# EAGLE library part CC3200MOD (library scono)
https://www.digikey.com/product-detail/en/CC3200MODR1M2AMOBT/296-43564-1-ND/5864711?utm_campaign=buynow&WT.z_cid=ref_octopart_dkc_buynow&utm_medium=aggregator&curr=usd&site=us&utm_source=octopart
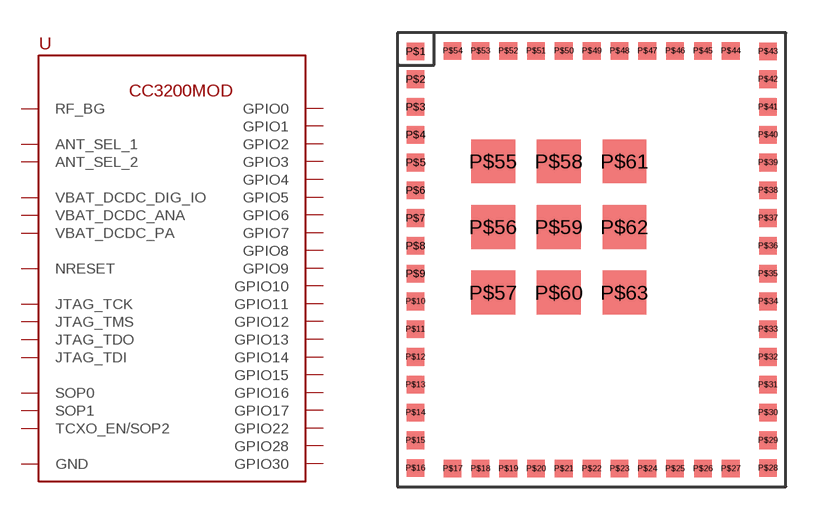
[diagram p43: symbol with the pads of 63-SMD; footprint 63-SMD]

Designator prefix U

## CC3200MOD  [63-SMD]
P$1  GND
P$2  GND
P$3  GPIO10
P$4  GPIO11
P$5  GPIO14
P$6  GPIO15
P$7  GPIO16
P$8  GPIO17
P$9  GPIO12
P$10  GPIO13
P$11  GPIO22
P$12  JTAG_TDI
P$16  GND
P$18  JTAG_TDO
P$19  GPIO28
P$21  JTAG_TCK
P$22  JTAG_TMS
P$23  TCXO_EN/SOP2
P$24  SOP1
P$25  ANT_SEL_1
P$26  ANT_SEL_2
P$27  GND
P$28  GND
P$30  GND
P$31  RF_BG
P$32  GND
P$34  SOP0
P$35  NRESET
P$36  VBAT_DCDC_ANA
P$37  VBAT_DCDC_PA
P$38  GND
P$40  VBAT_DCDC_DIG_IO
P$42  GPIO30
P$43  GND
P$44  GPIO0
P$46  GPIO1
P$47  GPIO2
P$48  GPIO3
P$49  GPIO4
P$50  GPIO5
P$51  GPIO6
P$52  GPIO7
P$53  GPIO8
P$54  GPIO9
P$55  GND
P$56  GND
P$57  GND
P$58  GND
P$59  GND
P$60  GND
P$61  GND
P$62  GND
P$63  GND

## Footprint 63-SMD (pad centres in mm)
smd 0.81 x 0.81: P$1 -8.05,9.525; P$2 -8.05,8.255; P$3 -8.05,6.985; P$4 -8.05,5.715; P$5 -8.05,4.445; P$6 -8.05,3.175; P$7 -8.05,1.905; P$8 -8.05,0.635; P$9 -8.05,-0.635; P$10 -8.05,-1.905; P$11 -8.05,-3.175; P$12 -8.05,-4.445; P$13 -8.05,-5.715; P$14 -8.05,-6.985; P$15 -8.05,-8.255; P$16 -8.05,-9.525; P$17 -6.35,-9.55; P$18 -5.08,-9.55; P$19 -3.81,-9.55; P$20 -2.54,-9.55; P$21 -1.27,-9.55; P$22 0,-9.55; P$23 1.27,-9.55; P$24 2.54,-9.55; P$25 3.81,-9.55; P$26 5.08,-9.55; P$27 6.35,-9.55; P$28 8.05,-9.525; P$29 8.05,-8.255; P$30 8.05,-6.985; P$31 8.05,-5.715; P$32 8.05,-4.445; P$33 8.05,-3.175; P$34 8.05,-1.905; P$35 8.05,-0.635; P$36 8.05,0.635; P$37 8.05,1.905; P$38 8.05,3.175; P$39 8.05,4.445; P$40 8.05,5.715; P$41 8.05,6.985; P$42 8.05,8.255; P$43 8.05,9.525; P$44 6.35,9.55; P$45 5.08,9.55; P$46 3.81,9.55; P$47 2.54,9.55; P$48 1.27,9.55; P$49 0,9.55; P$50 -1.27,9.55; P$51 -2.54,9.55; P$52 -3.81,9.55; P$53 -5.08,9.55; P$54 -6.35,9.55
smd 2 x 2: P$55 -4.5,4.5; P$56 -4.5,1.5; P$57 -4.5,-1.5; P$58 -1.5,4.5; P$59 -1.5,1.5; P$60 -1.5,-1.5; P$61 1.5,4.5; P$62 1.5,1.5; P$63 1.5,-1.5